# EAGLE library part SGP41-D-R4 (library SGP41-D-R4)
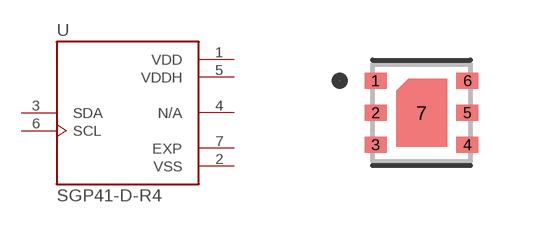
[diagram p0: symbol with the pads of XDCR_SGP41-D-R4; footprint XDCR_SGP41-D-R4]

Designator prefix U

## SGP41-D-R4 (MANUFACTURER: Sensirion; MAXIMUM_PACKAGE_HEIGHT: 0.95 mm; PARTREV: 1.0; STANDARD: Manufacturer Recommendations)  [XDCR_SGP41-D-R4]
1  VDD  pwr
2  VSS  pwr
3  SDA
4  N/A  pas
5  VDDH  pwr
6  SCL
7  EXP  pwr

## Footprint XDCR_SGP41-D-R4 (pad centres in mm)
smd 0.55 x 0.4: 1 -1.15,0.8; 2 -1.15,0; 3 -1.15,-0.8; 4 1.15,-0.8; 5 1.15,0; 6 1.15,0.8
smd 0.5 x 0.5: 7 0,0